# Altium schematic symbol library lib-actives.SchLib: 1 symbol
Pins are listed as number, name and electrical type; pins without a type are passive.

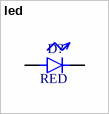
[diagram p0: symbol led]

## led
designator D?  value RED  (hidden comment: *)
LED
pins: A, C